# Altium footprint library 238pins_PcbLib1.PcbLib: 27 footprints (part 1 of 2)
Each footprint in its own frame and in the unit in brackets; x right, y up, seen from the top. Pads: shape width x height; smd on the part's side, far side on the other; paste and mask are expansions set on the pad; w line width, h text height; cw(c..) or ccw(c..) is an arc to the next point about the centre after c.
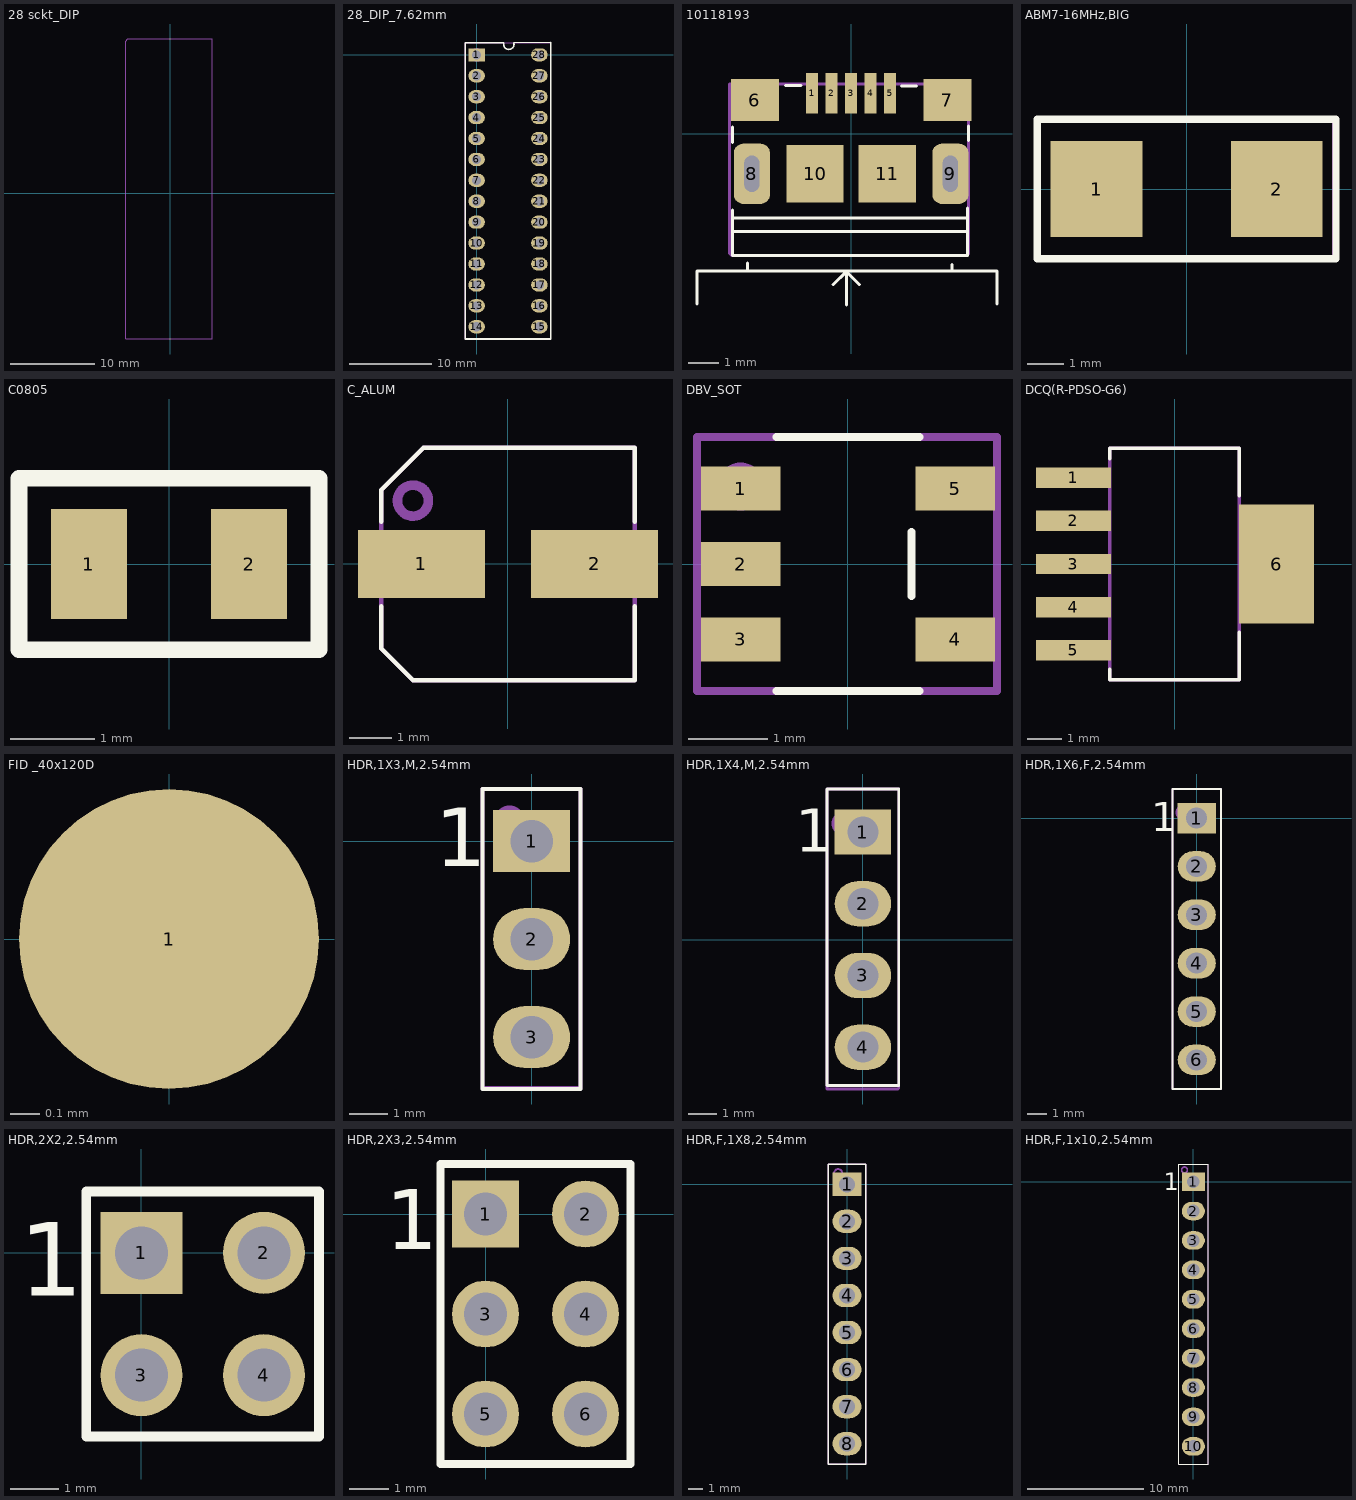
[diagram p0: the footprints below, top view; thin cyan lines are the x and y axes]

## 28 sckt_DIP [mm]
Mechanical 29:
  lines w0.1: -5.25,-17.25 5,-17.25 5,18.25 -5,18.25 -5.25,18 -5.25,-17.25
  text ".Designator" at 0.238,-0.746 h1.52
3D body "dil_socket.stp": height 2.8, standoff -4.57, extent -5.05,-17.25 5.05,18.25

## 28_DIP_7.62mm [mm]
pads (28):
  rect 2x1.6 hole 1.1: 1(0,0)
  oval 2x1.6 hole 1.1: 2(0,-2.54) 3(0,-5.08) 4(0,-7.62) 5(0,-10.16) 6(0,-12.7) 7(0,-15.24) 8(0,-17.78) 9(0,-20.32) 10(0,-22.86) 11(0,-25.4) 12(0,-27.94) 13(0,-30.48) 14(0,-33.02) 15(7.62,-33.02) 16(7.62,-30.48) 17(7.62,-27.94) 18(7.62,-25.4) 19(7.62,-22.86) 20(7.62,-20.32) 21(7.62,-17.78) 22(7.62,-15.24) 23(7.62,-12.7) 24(7.62,-10.16) 25(7.62,-7.62) 26(7.62,-5.08) 27(7.62,-2.54) 28(7.62,0)
Top Overlay:
  lines w0.2: -1.39,1.49 -1.39,-7.62 -1.39,-25.4 -1.39,-34.51 -0.56,-34.51 0.38,-34.51 1.39,-34.51 6.23,-34.51 7.24,-34.51 8.18,-34.51 9.01,-34.51 9.01,1.511 ; -1.372,1.49 3.275,1.49 ; 3.304,1.481 ccw(c3.91,1.29) 4.521,1.464 9.008,1.511
Mechanical 29:
  circle w0.5: c0.01,-0.01 r0.566
  lines w0.1: -1.39,-34.51 9.01,-34.51 9.01,1.49 -1.39,1.49 -1.39,-34.51
  text ".Designator" at 3.89,-16.656 h2
3D body "User Library-DIP28-300.step": height 7.53, standoff -0.04, extent -0.125,-34.51 7.745,1.49

## 10118193 [mm]
pads (11):
  rect 0.4x1.35 smd mask+0.05: 1(-1.3,1.338) 2(-0.65,1.338) 3(0,1.338) 4(0.65,1.338) 5(1.3,1.338)
  rect 1.6x1.4 smd: 6(-3.2,1.112) 7(3.2,1.112)
  rrect50% 1.2x2 hole 0.5 slot 1.2 at 90 deg: 8(-3.3,-1.338) 9(3.3,-1.338)
  rect 1.9x1.9 smd: 10(-1.2,-1.338) 11(1.2,-1.338)
Top Overlay:
  lines w0.1: -5.125,-5.675 -5.125,-4.575 4.85,-4.575 ; -3.95,-2.8 3.875,-2.8 ; -3.95,-2.55 -3.95,-4.05 3.875,-4.05 ; -3.95,-0.3 -3.95,0.225 ; -3.912,-3.262 3.875,-3.262 ; -3.45,-4.575 -3.45,-4.3 ; -2.175,1.6 -1.675,1.6 ; -0.587,-5.025 -0.6,-5.025 -0.15,-4.575 ; -0.15,-5.7 -0.15,-4.6 ; -0.138,-4.575 -0.15,-4.575 ; 0.275,-5.025 -0.15,-4.6 ; 1.675,1.575 2.175,1.575 ; 3.35,-4.575 3.35,-4.35 ; 3.875,-2.475 3.875,-4.05 ; 3.9,-0.225 3.9,0.25 ; 4.85,-5.675 4.85,-4.575 ; -0.15,-4.6 -0.15,-4.575 ; 3.875,-4.05 3.875,-4.05 ; 4.85,-4.575 4.85,-4.575
Mechanical 29:
  lines w0.1: -4.05,-3.975 -4.05,1.65 3.925,1.65 3.9,1.625 3.9,-4 3.85,-4.05 -3.975,-4.05 -4.05,-3.975
  text ".Designator" at -0.496,-0.738 h1
3D body "10118193-0001lfc.stp": height 2.87, standoff -0.73, extent -3.957,-4.08 3.9,1.58

## ABM7-16MHz,BIG [mm]
pads (2):
  rect 2.5x2.6 smd: 1(-2.45,0) 2(2.45,0)
Top Overlay:
  lines w0.2: -4.064,-1.9 4.064,-1.9 4.064,-0.95 4.064,0.95 4.064,1.9 2.032,1.9 -2.032,1.9 -4.064,1.9 -4.064,-1.9
Mechanical 29:
  lines w0.1: -4.1,-1.9 4,-1.9 4,-0.95 4,0.95 4,1.9 -4.1,1.9 -4.1,-1.9
  text ".Designator" at -1.446,-0.013 h1
3D body "ABM7-16.000MHZ-D2Y-T.step": height 1.41, standoff 0.01, extent -3,-1.75 3,1.75

## C0805 [mm]
pads (2):
  rect 0.9x1.3 smd: 1(-0.95,0) 2(0.95,0)
Top Overlay:
  lines w0.2: -1.778,-1.016 1.778,-1.016 1.778,1.016 -1.778,1.016 -1.778,-1.016
Mechanical 29:
  lines w0.1: -1.778,-1.016 1.778,-1.016 1.778,1.016 -1.778,1.016 -1.778,-1.016
  text ".Designator" at -0.889,-0.317 h1.02
3D body "CAPC2012X95N EIA 0805.step": height 0.96, standoff 0.01, extent -1,-0.6 1,0.6

## C_ALUM [mm]
pads (2):
  rect 3x1.6 smd: 1(-2.05,0) 2(2.05,0)
Top Overlay:
  lines w0.1: -3,-1 -3,-2 -2.25,-2.75 -2,-2.75 3,-2.75 3,-1 ; -3,1 -3,1.75 -2,2.75 3,2.75 3,2.5 3,1
Mechanical 29:
  circle w0.227: c-2.25,1.5 r0.367
  lines w0.1: -2,2.75 3,2.75 3,-2.75 -2.25,-2.75 -3,-2 -3,1 -3,1.75 -2,2.75 ; -2,2.75 -2,2.75
  text ".Designator" at -0.996,-0.163 h1
3D body "User Library-capacitor size C.step": height 5.41, standoff -0.01, extent -2.95,-2.65 2.95,2.65

## DBV_SOT [mm]
pads (5):
  rect 1x0.55 smd: 1(-1.35,0.95) 2(-1.35,0) 3(-1.35,-0.95) 4(1.35,-0.95) 5(1.35,0.95)
Top Overlay:
  lines w0.1: -0.9,-1.6 0.9,-1.6 ; -0.9,1.6 0.9,1.6 0,1.6 ; 0.8,-0.4 0.8,-0.2 0.8,0.2 0.8,0.4
Mechanical 29:
  circle w0.5: c-1.35,0.975 r0.05
  lines w0.1: -1.9,-1.6 -1.9,1.6 1.875,1.6 1.875,-1.6 -1.9,-1.6
  text ".Designator" at -0.425,-0.008 h0.5
3D body "User Library-TPS560200DBV.step": height 1.43, standoff -0.03, extent -1.439,-1.5 1.589,1.505

## DCQ(R-PDSO-G6) [mm]
pads (6):
  rect 2.2x0.6 smd: 1(-2.975,2.54) 2(-2.975,1.27) 3(-2.975,0) 4(-2.975,-1.27) 5(-2.975,-2.54)
  rect 2.2x3.5 smd: 6(3,0)
Top Overlay:
  lines w0.1: -1.9,-3.1 -1.9,-3.4 1.9,-3.4 1.9,-2 ; -1.9,3.1 -1.9,3.4 1.9,3.4 1.9,2
Mechanical 29:
  lines w0.1: -1.9,-3.4 -1.9,3.4 1.9,3.4 1.9,-3.4 -1.9,-3.4
  text ".Designator" at -0.846,-0.413 h1
3D body "User Library-TPS73701DCQ.step": height 1.77, standoff -0.03, extent -3.63,-3.275 3.63,3.275

## FID _40x120D [mil]
pads (1):
  round 40 smd paste-40 mask+40: 1(0,0)

## HDR,1X3,M,2.54mm [mm]
pads (3):
  rect 2x1.6 hole 1.1: 1(0,0)
  oval 2x1.6 hole 1.1: 2(0,-2.54) 3(0,-5.08)
Top Overlay:
  lines w0.1: -1.27,-6.425 -1.27,1.35 -0.461,1.35 0.461,1.35 1.27,1.35 1.27,-6.425 -1.27,-6.425
  text "1" at -2.496,-0.646 h1.52
Mechanical 29:
  circle w0.762: c-0.575,0.525 r0.013
  lines w0.1: -1.27,-6.4 1.27,-6.4 1.27,1.35 -1.27,1.35 -1.27,-6.4
  text ".Designator" at 0.388,-3.821 h1
3D body "User Library-1x3 TH Pitch 2_54mm.STEP": height 9.21, standoff -3.49, extent -1.27,-6.35 1.27,1.27

## HDR,1X4,M,2.54mm [mm]
pads (4):
  rect 2x1.6 hole 1.1: 1(0,3.81)
  oval 2x1.6 hole 1.1: 2(0,1.27) 3(0,-1.27) 4(0,-3.81)
Top Overlay:
  lines w0.1: -1.27,-5.165 -0.331,-5.165 0.634,-5.165 1.27,-5.165 1.27,5.334 0.381,5.334 -0.381,5.334 -1.27,5.334 -1.27,-5.165
  text "1" at -2.396,3.114 h1.52
Mechanical 29:
  circle w0.762: c-0.725,4.11 r0.013
  lines w0.1: -1.27,-5.285 -1.27,-5.09 -1.27,5.334 1.27,5.334 1.27,-5.065 1.27,-5.26 1.24,-5.29 -1.265,-5.29 -1.27,-5.285
  text ".Designator" at 0.388,-3.136 h1.52
3D body "68001-204HLF.step": height 8.39, standoff -3.04, extent -1.205,-5.08 1.205,5.08

## HDR,1X6,F,2.54mm [mm]
pads (6):
  rect 2x1.6 hole 1.1: 1(0,0)
  oval 2x1.6 hole 1.1: 2(0,-2.54) 3(0,-5.08) 4(0,-7.62) 5(0,-10.16) 6(0,-12.7)
Top Overlay:
  lines w0.1: -1.27,-14.224 -0.381,-14.224 0.381,-14.224 1.27,-14.224 1.27,1.524 0.381,1.524 -0.381,1.524 -1.27,1.524 -1.27,-14.224
  text "1" at -2.396,-0.696 h1.52
Mechanical 29:
  circle w0.762: c-0.725,0.3 r0.013
  lines w0.1: -1.27,-14.224 -1.27,1.524 1.27,1.524 1.27,-14.224 -1.27,-14.224
  text ".Designator" at 0.513,-10.771 h1.52
3D body "M20-7820642.stp": height 3.25, standoff -8.65, extent -1.25,-14.17 1.25,1.47

## HDR,2X2,2.54mm [mm]
pads (4):
  rect 1.7x1.7 hole 1.1: 1(0,0)
  round 1.7 hole 1.1: 2(2.54,0) 3(0,-2.54) 4(2.54,-2.54)
Top Overlay:
  lines w0.2: -1.143,-3.81 -1.143,1.27 3.683,1.27 3.683,-3.81 -1.143,-3.81
  text "1" at -2.54,-0.889 h1.52
Mechanical 29:
  circle w0.508: c-0.127,0.127 r0.254
  lines w0.1: -1.143,-3.81 0.191,-3.81 2.603,-3.81 3.683,-3.81 3.683,1.27 -1.143,1.27 -1.143,-3.81
  text ".Designator" at 1.651,-2.032 h0.76
3D body "67996-104HLF.step": height 8.4, standoff -2.4, extent -1.115,-3.84 3.715,1.24

## HDR,2X3,2.54mm [mm]
pads (6):
  rect 1.7x1.7 hole 1.1: 1(0,0)
  round 1.7 hole 1.1: 2(2.54,0) 3(0,-2.54) 4(2.54,-2.54) 5(0,-5.08) 6(2.54,-5.08)
Top Overlay:
  lines w0.2: -1.143,-6.35 -1.143,1.27 3.683,1.27 3.683,-6.35 -1.143,-6.35
  text "1" at -2.54,-0.889 h1.52
Mechanical 29:
  circle w0.508: c-0.127,0.127 r0.254
  lines w0.1: -1.143,-6.35 3.683,-6.35 3.683,1.27 -1.143,1.27 -1.143,-6.35
  text ".Designator" at 1.651,-3.683 h0.76
3D body "67997-106HLF.step": height 8.39, standoff -3.04, extent -1.145,-6.35 3.685,1.27

## HDR,F,1X8,2.54mm [mm]
pads (8):
  rect 2x1.6 hole 1.1: 1(0,0)
  oval 2x1.6 hole 1.1: 2(0,-2.54) 3(0,-5.08) 4(0,-7.62) 5(0,-10.16) 6(0,-12.7) 7(0,-15.24) 8(0,-17.78)
Top Overlay:
  lines w0.1: -1.27,-19.177 -0.635,-19.177 0.635,-19.177 1.27,-19.177 1.27,-19.05 1.27,1.397 -1.27,1.397 -1.27,-19.177
Mechanical 29:
  circle w0.127: c-0.605,0.762 r0.284
  lines w0.1: -1.27,-19.177 1.27,-19.177 1.27,1.397 -1.27,1.397 -1.27,-19.177
  text ".Designator" at 0.635,-11.811 h1.52
3D body "M20-7820842.stp": height 8.5, standoff -3.17, extent -1.27,-19 1.27,1.32

## HDR,F,1x10,2.54mm [mm]
pads (10):
  rect 2x1.6 hole 1.1: 1(0,0)
  oval 2x1.6 hole 1.1: 2(0,-2.54) 3(0,-5.08) 4(0,-7.62) 5(0,-10.16) 6(0,-12.7) 7(0,-15.24) 8(0,-17.78) 9(0,-20.32) 10(0,-22.86)
Top Overlay:
  lines w0.1: -1.27,-24.384 1.27,-24.384 1.27,1.524 -1.27,1.524 -1.27,-24.384
  text "1" at -2.54,-0.762 h1.52
Mechanical 29:
  circle w0.127: c-0.762,1.016 r0.254
  lines w0.1: -1.27,-24.384 1.27,-24.384 1.27,1.524 -1.27,1.524 -1.27,-24.384
  text ".Designator" at 0.508,-18.034 h1.52
3D body "M20-7821046.stp": height 8.65, standoff -3.25, extent -1.27,-24.33 1.23,1.47